# Altium schematic symbol library SCH - MCU - STM32 - ST MICROELECTRONICS STM32L071V(B-Z)TX LQFP100.SchLib: 1 symbol
Pins are listed as number, name and electrical type; pins without a type are passive.

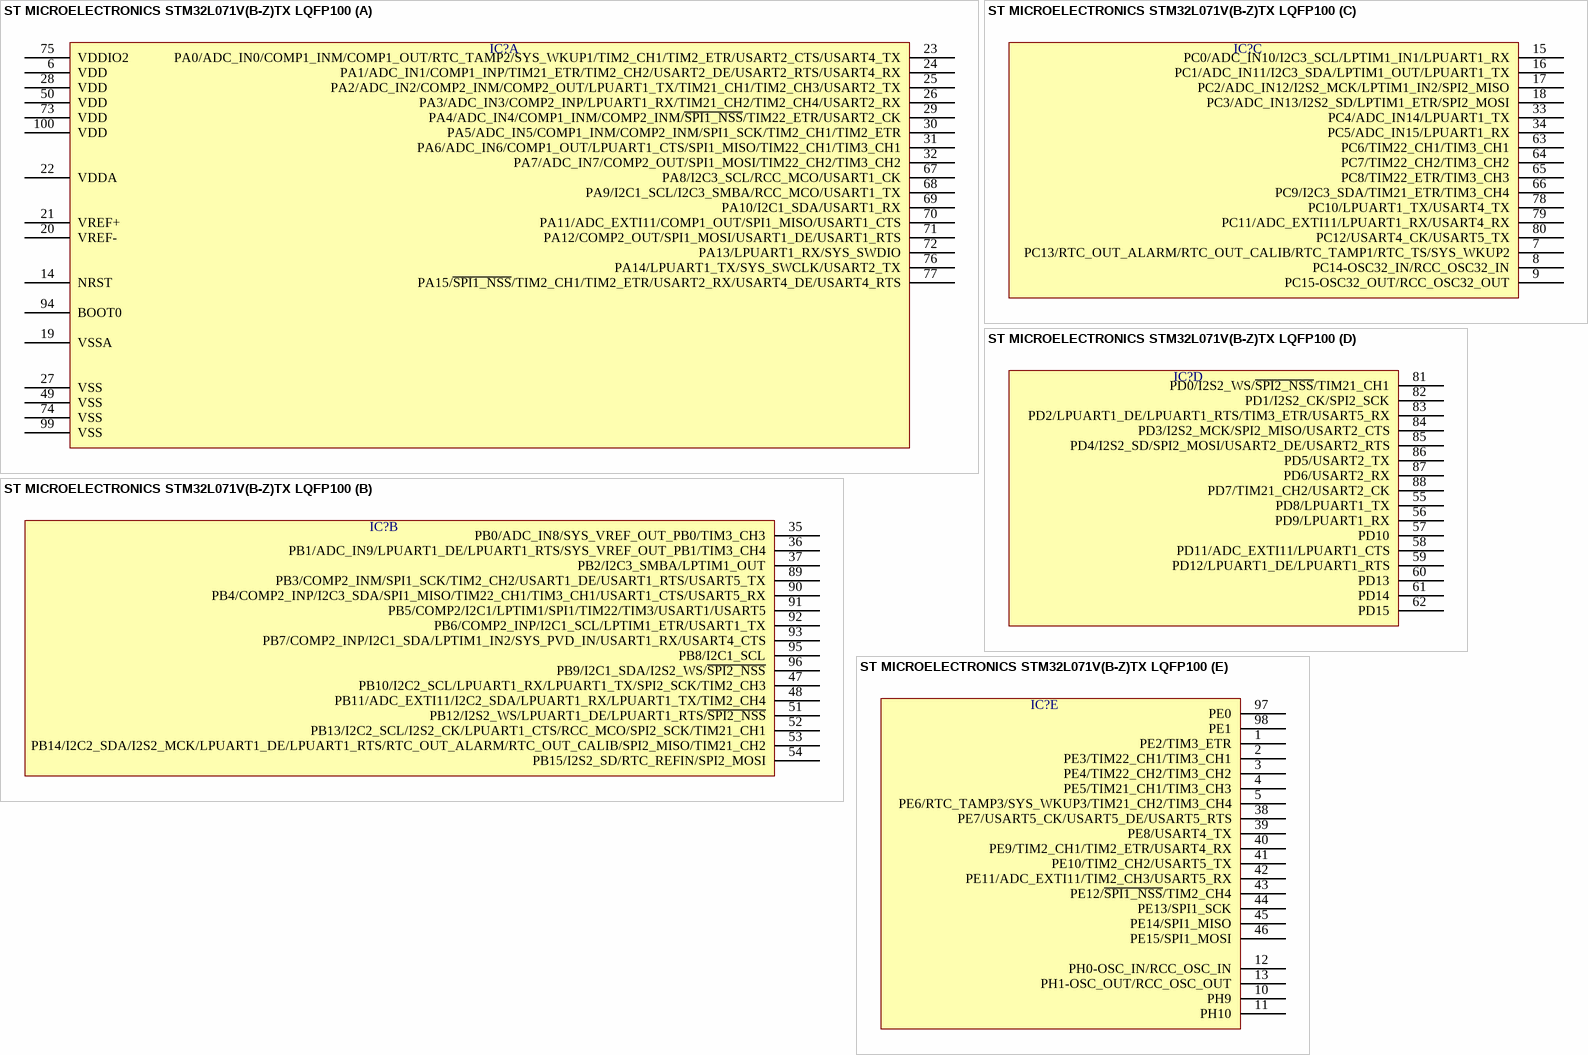
[diagram p0: symbol ST MICROELECTRONICS STM32L071V(B-Z)TX LQFP100]

## ST MICROELECTRONICS STM32L071V(B-Z)TX LQFP100
designator IC?  (value not drawn)
part A pins: 6 VDD, 14 NRST, 19 VSSA, 20 VREF-, 21 VREF+, 22 VDDA, 23 PA0/ADC_IN0/COMP1_INM/COMP1_OUT/RTC_TAMP2/SYS_WKUP1/TIM2_CH1/TIM2_ETR/USART2_CTS/USART4_TX, 24 PA1/ADC_IN1/COMP1_INP/TIM21_ETR/TIM2_CH2/USART2_DE/USART2_RTS/USART4_RX, 25 PA2/ADC_IN2/COMP2_INM/COMP2_OUT/LPUART1_TX/TIM21_CH1/TIM2_CH3/USART2_TX, 26 PA3/ADC_IN3/COMP2_INP/LPUART1_RX/TIM21_CH2/TIM2_CH4/USART2_RX, 27 VSS, 28 VDD, 29 PA4/ADC_IN4/COMP1_INM/COMP2_INM/~{SPI1_NSS}/TIM22_ETR/USART2_CK, 30 PA5/ADC_IN5/COMP1_INM/COMP2_INM/SPI1_SCK/TIM2_CH1/TIM2_ETR, 31 PA6/ADC_IN6/COMP1_OUT/LPUART1_CTS/SPI1_MISO/TIM22_CH1/TIM3_CH1, 32 PA7/ADC_IN7/COMP2_OUT/SPI1_MOSI/TIM22_CH2/TIM3_CH2, 49 VSS, 50 VDD, 67 PA8/I2C3_SCL/RCC_MCO/USART1_CK, 68 PA9/I2C1_SCL/I2C3_SMBA/RCC_MCO/USART1_TX, 69 PA10/I2C1_SDA/USART1_RX, 70 PA11/ADC_EXTI11/COMP1_OUT/SPI1_MISO/USART1_CTS, 71 PA12/COMP2_OUT/SPI1_MOSI/USART1_DE/USART1_RTS, 72 PA13/LPUART1_RX/SYS_SWDIO, 73 VDD, 74 VSS, 75 VDDIO2, 76 PA14/LPUART1_TX/SYS_SWCLK/USART2_TX, 77 PA15/~{SPI1_NSS}/TIM2_CH1/TIM2_ETR/USART2_RX/USART4_DE/USART4_RTS, 94 BOOT0, 99 VSS, 100 VDD
part B pins: 35 PB0/ADC_IN8/SYS_VREF_OUT_PB0/TIM3_CH3, 36 PB1/ADC_IN9/LPUART1_DE/LPUART1_RTS/SYS_VREF_OUT_PB1/TIM3_CH4, 37 PB2/I2C3_SMBA/LPTIM1_OUT, 47 PB10/I2C2_SCL/LPUART1_RX/LPUART1_TX/SPI2_SCK/TIM2_CH3, 48 PB11/ADC_EXTI11/I2C2_SDA/LPUART1_RX/LPUART1_TX/TIM2_CH4, 51 PB12/I2S2_WS/LPUART1_DE/LPUART1_RTS/~{SPI2_NSS}, 52 PB13/I2C2_SCL/I2S2_CK/LPUART1_CTS/RCC_MCO/SPI2_SCK/TIM21_CH1, 53 PB14/I2C2_SDA/I2S2_MCK/LPUART1_DE/LPUART1_RTS/RTC_OUT_ALARM/RTC_OUT_CALIB/SPI2_MISO/TIM21_CH2, 54 PB15/I2S2_SD/RTC_REFIN/SPI2_MOSI, 89 PB3/COMP2_INM/SPI1_SCK/TIM2_CH2/USART1_DE/USART1_RTS/USART5_TX, 90 PB4/COMP2_INP/I2C3_SDA/SPI1_MISO/TIM22_CH1/TIM3_CH1/USART1_CTS/USART5_RX, 91 PB5/COMP2/I2C1/LPTIM1/SPI1/TIM22/TIM3/USART1/USART5, 92 PB6/COMP2_INP/I2C1_SCL/LPTIM1_ETR/USART1_TX, 93 PB7/COMP2_INP/I2C1_SDA/LPTIM1_IN2/SYS_PVD_IN/USART1_RX/USART4_CTS, 95 PB8/I2C1_SCL, 96 PB9/I2C1_SDA/I2S2_WS/~{SPI2_NSS}
part C pins: 7 PC13/RTC_OUT_ALARM/RTC_OUT_CALIB/RTC_TAMP1/RTC_TS/SYS_WKUP2, 8 PC14-OSC32_IN/RCC_OSC32_IN, 9 PC15-OSC32_OUT/RCC_OSC32_OUT, 15 PC0/ADC_IN10/I2C3_SCL/LPTIM1_IN1/LPUART1_RX, 16 PC1/ADC_IN11/I2C3_SDA/LPTIM1_OUT/LPUART1_TX, 17 PC2/ADC_IN12/I2S2_MCK/LPTIM1_IN2/SPI2_MISO, 18 PC3/ADC_IN13/I2S2_SD/LPTIM1_ETR/SPI2_MOSI, 33 PC4/ADC_IN14/LPUART1_TX, 34 PC5/ADC_IN15/LPUART1_RX, 63 PC6/TIM22_CH1/TIM3_CH1, 64 PC7/TIM22_CH2/TIM3_CH2, 65 PC8/TIM22_ETR/TIM3_CH3, 66 PC9/I2C3_SDA/TIM21_ETR/TIM3_CH4, 78 PC10/LPUART1_TX/USART4_TX, 79 PC11/ADC_EXTI11/LPUART1_RX/USART4_RX, 80 PC12/USART4_CK/USART5_TX
part D pins: 55 PD8/LPUART1_TX, 56 PD9/LPUART1_RX, 57 PD10, 58 PD11/ADC_EXTI11/LPUART1_CTS, 59 PD12/LPUART1_DE/LPUART1_RTS, 60 PD13, 61 PD14, 62 PD15, 81 PD0/I2S2_WS/~{SPI2_NSS}/TIM21_CH1, 82 PD1/I2S2_CK/SPI2_SCK, 83 PD2/LPUART1_DE/LPUART1_RTS/TIM3_ETR/USART5_RX, 84 PD3/I2S2_MCK/SPI2_MISO/USART2_CTS, 85 PD4/I2S2_SD/SPI2_MOSI/USART2_DE/USART2_RTS, 86 PD5/USART2_TX, 87 PD6/USART2_RX, 88 PD7/TIM21_CH2/USART2_CK
part E pins: 1 PE2/TIM3_ETR, 2 PE3/TIM22_CH1/TIM3_CH1, 3 PE4/TIM22_CH2/TIM3_CH2, 4 PE5/TIM21_CH1/TIM3_CH3, 5 PE6/RTC_TAMP3/SYS_WKUP3/TIM21_CH2/TIM3_CH4, 10 PH9, 11 PH10, 12 PH0-OSC_IN/RCC_OSC_IN, 13 PH1-OSC_OUT/RCC_OSC_OUT, 38 PE7/USART5_CK/USART5_DE/USART5_RTS, 39 PE8/USART4_TX, 40 PE9/TIM2_CH1/TIM2_ETR/USART4_RX, 41 PE10/TIM2_CH2/USART5_TX, 42 PE11/ADC_EXTI11/TIM2_CH3/USART5_RX, 43 PE12/~{SPI1_NSS}/TIM2_CH4, 44 PE13/SPI1_SCK, 45 PE14/SPI1_MISO, 46 PE15/SPI1_MOSI, 97 PE0, 98 PE1